# Altium footprint library Package_SO.PcbLib: 393 footprints (part 4 of 25)
Each footprint in its own frame and in the unit in brackets; x right, y up, seen from the top. Pads: shape width x height; smd on the part's side, far side on the other; paste and mask are expansions set on the pad; w line width, h text height; cw(c..) or ccw(c..) is an arc to the next point about the centre after c.
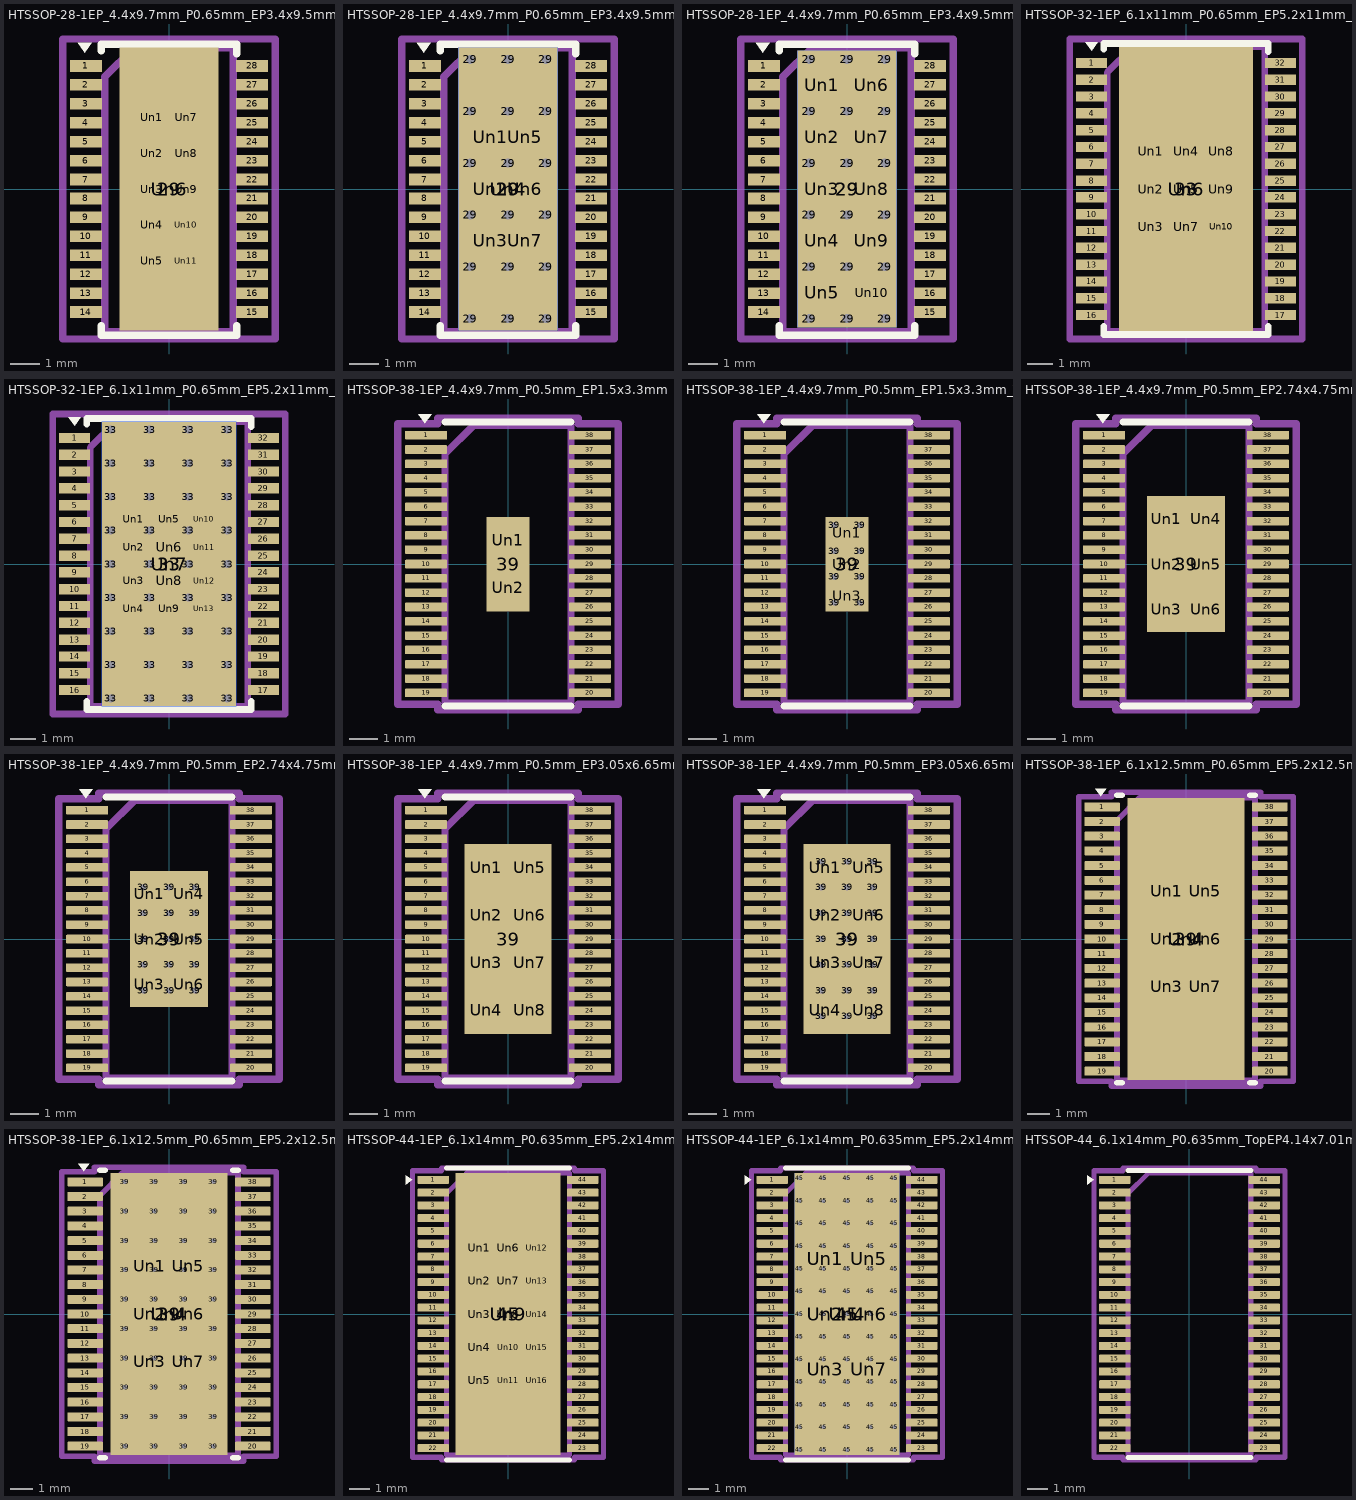
[diagram p3: the footprints below, top view; thin cyan lines are the x and y axes]

## HTSSOP-28-1EP_4.4x9.7mm_P0.65mm_EP3.4x9.5mm_Mask2.4x6.17mm [mm]
pads (40):
  rect 1.1x0.4 smd: 1(-2.85,4.225) 2(-2.85,3.575) 3(-2.85,2.925) 4(-2.85,2.275) 5(-2.85,1.625) 6(-2.85,0.975) 7(-2.85,0.325) 8(-2.85,-0.325) 9(-2.85,-0.975) 10(-2.85,-1.625) 11(-2.85,-2.275) 12(-2.85,-2.925) 13(-2.85,-3.575) 14(-2.85,-4.225) 15(2.85,-4.225) 16(2.85,-3.575) 17(2.85,-2.925) 18(2.85,-2.275) 19(2.85,-1.625) 20(2.85,-0.975) 21(2.85,-0.325) 22(2.85,0.325) 23(2.85,0.975) 24(2.85,1.625) 25(2.85,2.275) 26(2.85,2.925) 27(2.85,3.575) 28(2.85,4.225)
  rect 3.4x9.7 smd: 29(0,0)
  rect 0.9x0.93 on Top Paste: Un1(-0.6,2.468) Un2(-0.6,1.234) Un3(-0.6,0) Un4(-0.6,-1.234) Un5(-0.6,-2.468) Un7(0.6,2.468) Un8(0.6,1.234) Un9(0.6,0) Un10(0.6,-1.234) Un11(0.6,-2.468)
  rect 2.4x6.17 on Top Solder: Un6(0,0)
F.SilkS:
  region: -2.9,4.685 -3.14,5.015 -2.66,5.015
  lines w0.254: -2.325,-4.701 -2.325,-5.026 2.325,-5.026 2.325,-4.701 ; -2.325,4.75 -2.325,4.975 2.325,4.975 2.325,4.65
Top Assembly:
  lines w0.254: -2.2,-4.901 2.2,-4.901 ; -2.2,-4.85 -2.2,3.85 -1.2,4.85 2.2,4.85 2.2,-4.85
  text "'.Designator'" at -3.267,-0.702 h0.8
Top Courtyard:
  lines w0.254: -3.65,-5.15 3.65,-5.15 3.65,5.15 -3.65,5.15 -3.65,-5.15
Top Designator:
  text ".Designator" at -7.618,-0.508 h1.52

## HTSSOP-28-1EP_4.4x9.7mm_P0.65mm_EP3.4x9.5mm_Mask2.4x6.17mm_ThermalVias [mm]
pads (55):
  rect 1.1x0.4 smd: 1(-2.85,4.225) 2(-2.85,3.575) 3(-2.85,2.925) 4(-2.85,2.275) 5(-2.85,1.625) 6(-2.85,0.975) 7(-2.85,0.325) 8(-2.85,-0.325) 9(-2.85,-0.975) 10(-2.85,-1.625) 11(-2.85,-2.275) 12(-2.85,-2.925) 13(-2.85,-3.575) 14(-2.85,-4.225) 15(2.85,-4.225) 16(2.85,-3.575) 17(2.85,-2.925) 18(2.85,-2.275) 19(2.85,-1.625) 20(2.85,-0.975) 21(2.85,-0.325) 22(2.85,0.325) 23(2.85,0.975) 24(2.85,1.625) 25(2.85,2.275) 26(2.85,2.925) 27(2.85,3.575) 28(2.85,4.225)
  round 0.6 hole 0.3: 29(-1.3,-4.45) 29(-1.3,-2.67) 29(-1.3,-0.89) 29(-1.3,0.89) 29(-1.3,2.67) 29(-1.3,4.45) 29(0,-4.45) 29(0,-2.67) 29(0,-0.89) 29(0,0.89) 29(0,2.67) 29(0,4.45) 29(1.3,-4.45) 29(1.3,-2.67) 29(1.3,-0.89) 29(1.3,0.89) 29(1.3,2.67) 29(1.3,4.45)
  rect 3.4x9.7 smd: 29(0,0)
  rect 3.4x9.7 smd far side: 29(0,0)
  rect 0.9x1.4 on Top Paste: Un1(-0.6,1.78) Un2(-0.6,0) Un3(-0.6,-1.78) Un5(0.6,1.78) Un6(0.6,0) Un7(0.6,-1.78)
  rect 2.4x6.17 on Top Solder: Un4(0,0)
F.SilkS:
  region: -2.9,4.685 -3.14,5.015 -2.66,5.015
  lines w0.254: -2.325,-4.701 -2.325,-5.026 2.325,-5.026 2.325,-4.701 ; -2.325,4.75 -2.325,4.975 2.325,4.975 2.325,4.65
Top Assembly:
  lines w0.254: -2.2,-4.901 2.2,-4.901 ; -2.2,-4.85 -2.2,3.85 -1.2,4.85 2.2,4.85 2.2,-4.85
  text "'.Designator'" at -3.267,-0.702 h0.8
Top Courtyard:
  lines w0.254: -3.65,-5.15 3.65,-5.15 3.65,5.15 -3.65,5.15 -3.65,-5.15
Top Designator:
  text ".Designator" at -7.618,-0.508 h1.52

## HTSSOP-28-1EP_4.4x9.7mm_P0.65mm_EP3.4x9.5mm_ThermalVias [mm]
pads (58):
  rect 1.1x0.4 smd: 1(-2.85,4.225) 2(-2.85,3.575) 3(-2.85,2.925) 4(-2.85,2.275) 5(-2.85,1.625) 6(-2.85,0.975) 7(-2.85,0.325) 8(-2.85,-0.325) 9(-2.85,-0.975) 10(-2.85,-1.625) 11(-2.85,-2.275) 12(-2.85,-2.925) 13(-2.85,-3.575) 14(-2.85,-4.225) 15(2.85,-4.225) 16(2.85,-3.575) 17(2.85,-2.925) 18(2.85,-2.275) 19(2.85,-1.625) 20(2.85,-0.975) 21(2.85,-0.325) 22(2.85,0.325) 23(2.85,0.975) 24(2.85,1.625) 25(2.85,2.275) 26(2.85,2.925) 27(2.85,3.575) 28(2.85,4.225)
  round 0.6 hole 0.3: 29(-1.3,-4.45) 29(-1.3,-2.67) 29(-1.3,-0.89) 29(-1.3,0.89) 29(-1.3,2.67) 29(-1.3,4.45) 29(0,-4.45) 29(0,-2.67) 29(0,-0.89) 29(0,0.89) 29(0,2.67) 29(0,4.45) 29(1.3,-4.45) 29(1.3,-2.67) 29(1.3,-0.89) 29(1.3,0.89) 29(1.3,2.67) 29(1.3,4.45)
  rect 3.4x9.5 smd: 29(0,0)
  rect 3.4x9.5 smd far side: 29(0,0)
  rect 1.4x1.4 on Top Paste: Un1(-0.85,3.56) Un2(-0.85,1.78) Un3(-0.85,0) Un4(-0.85,-1.78) Un5(-0.85,-3.56) Un6(0.85,3.56) Un7(0.85,1.78) Un8(0.85,0) Un9(0.85,-1.78) Un10(0.85,-3.56)
F.SilkS:
  region: -2.9,4.685 -3.14,5.015 -2.66,5.015
  lines w0.254: -2.325,-4.701 -2.325,-5.026 2.325,-5.026 2.325,-4.701 ; -2.325,4.75 -2.325,4.975 2.325,4.975 2.325,4.65
Top Assembly:
  lines w0.254: -2.2,-4.901 2.2,-4.901 ; -2.2,-4.85 -2.2,3.85 -1.2,4.85 2.2,4.85 2.2,-4.85
  text "'.Designator'" at -3.267,-0.702 h0.8
Top Courtyard:
  lines w0.254: -3.65,-5.15 3.65,-5.15 3.65,5.15 -3.65,5.15 -3.65,-5.15
Top Designator:
  text ".Designator" at -7.618,-0.508 h1.52

## HTSSOP-32-1EP_6.1x11mm_P0.65mm_EP5.2x11mm_Mask4.11x4.36mm [mm]
pads (43):
  rect 1.2x0.4 smd: 1(-3.65,4.875) 2(-3.65,4.225) 3(-3.65,3.575) 4(-3.65,2.925) 5(-3.65,2.275) 6(-3.65,1.625) 7(-3.65,0.975) 8(-3.65,0.325) 9(-3.65,-0.325) 10(-3.65,-0.975) 11(-3.65,-1.625) 12(-3.65,-2.275) 13(-3.65,-2.925) 14(-3.65,-3.575) 15(-3.65,-4.225) 16(-3.65,-4.875) 17(3.65,-4.875) 18(3.65,-4.225) 19(3.65,-3.575) 20(3.65,-2.925) 21(3.65,-2.275) 22(3.65,-1.625) 23(3.65,-0.975) 24(3.65,-0.325) 25(3.65,0.325) 26(3.65,0.975) 27(3.65,1.625) 28(3.65,2.275) 29(3.65,2.925) 30(3.65,3.575) 31(3.65,4.225) 32(3.65,4.875)
  rect 5.2x11 smd: 33(0,0)
  rect 1.07x1.16 on Top Paste: Un1(-1.37,1.46) Un2(-1.37,0) Un3(-1.37,-1.46) Un4(0,1.46) Un5(0,0) Un7(0,-1.46) Un8(1.37,1.46) Un9(1.37,0) Un10(1.37,-1.46)
  rect 4.11x4.36 on Top Solder: Un6(0,0)
F.SilkS:
  region: -3.65,5.35 -3.89,5.68 -3.41,5.68
  lines w0.254: -3.175,-5.3 -3.175,-5.625 3.175,-5.625 3.175,-5.3 ; -3.175,5.4 -3.175,5.625 3.175,5.625 3.175,5.3
Top Assembly:
  lines w0.254: -3.05,-5.5 3.05,-5.5 3.05,5.5 -2.05,5.5 -3.05,4.5 -3.05,-5.5
  text "'.Designator'" at -3.267,-0.702 h0.8
Top Courtyard:
  lines w0.254: -4.5,-5.8 4.5,-5.8 4.5,5.8 -4.5,5.8 -4.5,-5.8
Top Designator:
  text ".Designator" at -7.618,-0.508 h1.52

## HTSSOP-32-1EP_6.1x11mm_P0.65mm_EP5.2x11mm_Mask4.11x4.36mm_ThermalVias [mm]
pads (83):
  rect 1.2x0.4 smd: 1(-3.65,4.875) 2(-3.65,4.225) 3(-3.65,3.575) 4(-3.65,2.925) 5(-3.65,2.275) 6(-3.65,1.625) 7(-3.65,0.975) 8(-3.65,0.325) 9(-3.65,-0.325) 10(-3.65,-0.975) 11(-3.65,-1.625) 12(-3.65,-2.275) 13(-3.65,-2.925) 14(-3.65,-3.575) 15(-3.65,-4.225) 16(-3.65,-4.875) 17(3.65,-4.875) 18(3.65,-4.225) 19(3.65,-3.575) 20(3.65,-2.925) 21(3.65,-2.275) 22(3.65,-1.625) 23(3.65,-0.975) 24(3.65,-0.325) 25(3.65,0.325) 26(3.65,0.975) 27(3.65,1.625) 28(3.65,2.275) 29(3.65,2.925) 30(3.65,3.575) 31(3.65,4.225) 32(3.65,4.875)
  round 0.6 hole 0.3: 33(-2.25,-5.2) 33(-2.25,-3.9) 33(-2.25,-2.6) 33(-2.25,-1.3) 33(-2.25,0) 33(-2.25,1.3) 33(-2.25,2.6) 33(-2.25,3.9) 33(-2.25,5.2) 33(-0.75,-5.2) 33(-0.75,-3.9) 33(-0.75,-2.6) 33(-0.75,-1.3) 33(-0.75,0) 33(-0.75,1.3) 33(-0.75,2.6) 33(-0.75,3.9) 33(-0.75,5.2) 33(0.75,-5.2) 33(0.75,-3.9) 33(0.75,-2.6) 33(0.75,-1.3) 33(0.75,0) 33(0.75,1.3) 33(0.75,2.6) 33(0.75,3.9) 33(0.75,5.2) 33(2.25,-5.2) 33(2.25,-3.9) 33(2.25,-2.6) 33(2.25,-1.3) 33(2.25,0) 33(2.25,1.3) 33(2.25,2.6) 33(2.25,3.9) 33(2.25,5.2)
  rect 5.2x11 smd: 33(0,0)
  rect 5.2x11 smd far side: 33(0,0)
  rect 0.93x0.55 on Top Paste: Un1(-1.365,1.725) Un4(-1.365,-1.725) Un10(1.365,1.725) Un13(1.365,-1.725)
  rect 0.93x1 on Top Paste: Un2(-1.365,0.65) Un3(-1.365,-0.65) Un11(1.365,0.65) Un12(1.365,-0.65)
  rect 1.2x0.55 on Top Paste: Un5(0,1.725) Un9(0,-1.725)
  rect 1.2x1 on Top Paste: Un6(0,0.65) Un8(0,-0.65)
  rect 4.11x4.36 on Top Solder: Un7(0,0)
F.SilkS:
  region: -3.65,5.35 -3.89,5.68 -3.41,5.68
  lines w0.254: -3.175,-5.3 -3.175,-5.625 3.175,-5.625 3.175,-5.3 ; -3.175,5.4 -3.175,5.625 3.175,5.625 3.175,5.3
Top Assembly:
  lines w0.254: -3.05,-5.5 3.05,-5.5 3.05,5.5 -2.05,5.5 -3.05,4.5 -3.05,-5.5
  text "'.Designator'" at -3.267,-0.702 h0.8
Top Courtyard:
  lines w0.254: -4.5,-5.8 4.5,-5.8 4.5,5.8 -4.5,5.8 -4.5,-5.8
Top Designator:
  text ".Designator" at -7.618,-0.508 h1.52

## HTSSOP-38-1EP_4.4x9.7mm_P0.5mm_EP1.5x3.3mm [mm]
pads (41):
  rrect25% 1.475x0.3 smd: 1(-2.863,4.5) 2(-2.863,4) 3(-2.863,3.5) 4(-2.863,3) 5(-2.863,2.5) 6(-2.863,2) 7(-2.863,1.5) 8(-2.863,1) 9(-2.863,0.5) 10(-2.863,0) 11(-2.863,-0.5) 12(-2.863,-1) 13(-2.863,-1.5) 14(-2.863,-2) 15(-2.863,-2.5) 16(-2.863,-3) 17(-2.863,-3.5) 18(-2.863,-4) 19(-2.863,-4.5) 20(2.863,-4.5) 21(2.863,-4) 22(2.863,-3.5) 23(2.863,-3) 24(2.863,-2.5) 25(2.863,-2) 26(2.863,-1.5) 27(2.863,-1) 28(2.863,-0.5) 29(2.863,0) 30(2.863,0.5) 31(2.863,1) 32(2.863,1.5) 33(2.863,2) 34(2.863,2.5) 35(2.863,3) 36(2.863,3.5) 37(2.863,4) 38(2.863,4.5)
  rect 1.5x3.3 smd: 39(0,0)
  rrect21% 1.21x1.33 on Top Paste: Un1(0,0.825) Un2(0,-0.825)
F.SilkS:
  region: -2.9,4.91 -3.14,5.24 -2.66,5.24
  lines w0.254: -2.2,-4.96 0,-4.96 2.2,-4.96 ; -2.2,4.96 0,4.96 2.2,4.96
Top Assembly:
  lines w0.254: -2.2,-4.85 2.2,-4.85 2.2,4.85 -1.2,4.85 -2.2,3.85 -2.2,-4.85
  text "'.Designator'" at -4.047,-0.84 h1
Top Courtyard:
  lines w0.254: -3.85,-4.9 -2.45,-4.9 -2.45,-5.1 2.45,-5.1 2.45,-4.9 3.85,-4.9 3.85,4.9 2.45,4.9 2.45,5.1 -2.45,5.1 -2.45,4.9 -3.85,4.9 -3.85,-4.9
Top Designator:
  text ".Designator" at -7.727,-0.501 h1.52

## HTSSOP-38-1EP_4.4x9.7mm_P0.5mm_EP1.5x3.3mm_ThermalVias [mm]
pads (51):
  rrect25% 1.475x0.3 smd: 1(-2.863,4.5) 2(-2.863,4) 3(-2.863,3.5) 4(-2.863,3) 5(-2.863,2.5) 6(-2.863,2) 7(-2.863,1.5) 8(-2.863,1) 9(-2.863,0.5) 10(-2.863,0) 11(-2.863,-0.5) 12(-2.863,-1) 13(-2.863,-1.5) 14(-2.863,-2) 15(-2.863,-2.5) 16(-2.863,-3) 17(-2.863,-3.5) 18(-2.863,-4) 19(-2.863,-4.5) 20(2.863,-4.5) 21(2.863,-4) 22(2.863,-3.5) 23(2.863,-3) 24(2.863,-2.5) 25(2.863,-2) 26(2.863,-1.5) 27(2.863,-1) 28(2.863,-0.5) 29(2.863,0) 30(2.863,0.5) 31(2.863,1) 32(2.863,1.5) 33(2.863,2) 34(2.863,2.5) 35(2.863,3) 36(2.863,3.5) 37(2.863,4) 38(2.863,4.5)
  round 0.5 hole 0.2: 39(-0.45,-1.35) 39(-0.45,-0.45) 39(-0.45,0.45) 39(-0.45,1.35) 39(0.45,-1.35) 39(0.45,-0.45) 39(0.45,0.45) 39(0.45,1.35)
  rect 1.5x3.3 smd: 39(0,0)
  rect 1.4x3.2 smd far side: 39(0,0)
  rrect25% 1.21x0.89 on Top Paste: Un1(0,1.1) Un2(0,0) Un3(0,-1.1)
F.SilkS:
  region: -2.9,4.91 -3.14,5.24 -2.66,5.24
  lines w0.254: -2.2,-4.96 0,-4.96 2.2,-4.96 ; -2.2,4.96 0,4.96 2.2,4.96
Top Assembly:
  lines w0.254: -2.2,-4.85 2.2,-4.85 2.2,4.85 -1.2,4.85 -2.2,3.85 -2.2,-4.85
  text "'.Designator'" at -4.047,-0.84 h1
Top Courtyard:
  lines w0.254: -3.85,-4.9 -2.45,-4.9 -2.45,-5.1 2.45,-5.1 2.45,-4.9 3.85,-4.9 3.85,4.9 2.45,4.9 2.45,5.1 -2.45,5.1 -2.45,4.9 -3.85,4.9 -3.85,-4.9
Top Designator:
  text ".Designator" at -7.727,-0.501 h1.52

## HTSSOP-38-1EP_4.4x9.7mm_P0.5mm_EP2.74x4.75mm [mm]
pads (45):
  rrect25% 1.475x0.3 smd: 1(-2.863,4.5) 2(-2.863,4) 3(-2.863,3.5) 4(-2.863,3) 5(-2.863,2.5) 6(-2.863,2) 7(-2.863,1.5) 8(-2.863,1) 9(-2.863,0.5) 10(-2.863,0) 11(-2.863,-0.5) 12(-2.863,-1) 13(-2.863,-1.5) 14(-2.863,-2) 15(-2.863,-2.5) 16(-2.863,-3) 17(-2.863,-3.5) 18(-2.863,-4) 19(-2.863,-4.5) 20(2.863,-4.5) 21(2.863,-4) 22(2.863,-3.5) 23(2.863,-3) 24(2.863,-2.5) 25(2.863,-2) 26(2.863,-1.5) 27(2.863,-1) 28(2.863,-0.5) 29(2.863,0) 30(2.863,0.5) 31(2.863,1) 32(2.863,1.5) 33(2.863,2) 34(2.863,2.5) 35(2.863,3) 36(2.863,3.5) 37(2.863,4) 38(2.863,4.5)
  rect 2.74x4.75 smd: 39(0,0)
  rrect23% 1.1x1.28 on Top Paste: Un1(-0.685,1.58) Un2(-0.685,0) Un3(-0.685,-1.58) Un4(0.685,1.58) Un5(0.685,0) Un6(0.685,-1.58)
F.SilkS:
  region: -2.9,4.91 -3.14,5.24 -2.66,5.24
  lines w0.254: -2.2,-4.96 0,-4.96 2.2,-4.96 ; -2.2,4.96 0,4.96 2.2,4.96
Top Assembly:
  lines w0.254: -2.2,-4.85 2.2,-4.85 2.2,4.85 -1.2,4.85 -2.2,3.85 -2.2,-4.85
  text "'.Designator'" at -4.047,-0.84 h1
Top Courtyard:
  lines w0.254: -3.85,-4.9 -2.45,-4.9 -2.45,-5.1 2.45,-5.1 2.45,-4.9 3.85,-4.9 3.85,4.9 2.45,4.9 2.45,5.1 -2.45,5.1 -2.45,4.9 -3.85,4.9 -3.85,-4.9
Top Designator:
  text ".Designator" at -7.727,-0.501 h1.52

## HTSSOP-38-1EP_4.4x9.7mm_P0.5mm_EP2.74x4.75mm_ThermalVias [mm]
pads (61):
  rrect25% 1.475x0.3 smd: 1(-2.863,4.5) 2(-2.863,4) 3(-2.863,3.5) 4(-2.863,3) 5(-2.863,2.5) 6(-2.863,2) 7(-2.863,1.5) 8(-2.863,1) 9(-2.863,0.5) 10(-2.863,0) 11(-2.863,-0.5) 12(-2.863,-1) 13(-2.863,-1.5) 14(-2.863,-2) 15(-2.863,-2.5) 16(-2.863,-3) 17(-2.863,-3.5) 18(-2.863,-4) 19(-2.863,-4.5) 20(2.863,-4.5) 21(2.863,-4) 22(2.863,-3.5) 23(2.863,-3) 24(2.863,-2.5) 25(2.863,-2) 26(2.863,-1.5) 27(2.863,-1) 28(2.863,-0.5) 29(2.863,0) 30(2.863,0.5) 31(2.863,1) 32(2.863,1.5) 33(2.863,2) 34(2.863,2.5) 35(2.863,3) 36(2.863,3.5) 37(2.863,4) 38(2.863,4.5)
  round 0.5 hole 0.2: 39(-0.9,-1.8) 39(-0.9,-0.9) 39(-0.9,0) 39(-0.9,0.9) 39(-0.9,1.8) 39(0,-1.8) 39(0,-0.9) 39(0,0) 39(0,0.9) 39(0,1.8) 39(0.9,-1.8) 39(0.9,-0.9) 39(0.9,0) 39(0.9,0.9) 39(0.9,1.8)
  rect 2.74x4.75 smd: 39(0,0)
  rect 2.3x4.1 smd far side: 39(0,0)
  rrect23% 1.1x1.28 on Top Paste: Un1(-0.685,1.58) Un2(-0.685,0) Un3(-0.685,-1.58) Un4(0.685,1.58) Un5(0.685,0) Un6(0.685,-1.58)
F.SilkS:
  region: -2.9,4.91 -3.14,5.24 -2.66,5.24
  lines w0.254: -2.2,-4.96 0,-4.96 2.2,-4.96 ; -2.2,4.96 0,4.96 2.2,4.96
Top Assembly:
  lines w0.254: -2.2,-4.85 2.2,-4.85 2.2,4.85 -1.2,4.85 -2.2,3.85 -2.2,-4.85
  text "'.Designator'" at -4.047,-0.84 h1
Top Courtyard:
  lines w0.254: -3.85,-4.9 -2.45,-4.9 -2.45,-5.1 2.45,-5.1 2.45,-4.9 3.85,-4.9 3.85,4.9 2.45,4.9 2.45,5.1 -2.45,5.1 -2.45,4.9 -3.85,4.9 -3.85,-4.9
Top Designator:
  text ".Designator" at -7.727,-0.501 h1.52

## HTSSOP-38-1EP_4.4x9.7mm_P0.5mm_EP3.05x6.65mm [mm]
pads (47):
  rrect25% 1.475x0.3 smd: 1(-2.863,4.5) 2(-2.863,4) 3(-2.863,3.5) 4(-2.863,3) 5(-2.863,2.5) 6(-2.863,2) 7(-2.863,1.5) 8(-2.863,1) 9(-2.863,0.5) 10(-2.863,0) 11(-2.863,-0.5) 12(-2.863,-1) 13(-2.863,-1.5) 14(-2.863,-2) 15(-2.863,-2.5) 16(-2.863,-3) 17(-2.863,-3.5) 18(-2.863,-4) 19(-2.863,-4.5) 20(2.863,-4.5) 21(2.863,-4) 22(2.863,-3.5) 23(2.863,-3) 24(2.863,-2.5) 25(2.863,-2) 26(2.863,-1.5) 27(2.863,-1) 28(2.863,-0.5) 29(2.863,0) 30(2.863,0.5) 31(2.863,1) 32(2.863,1.5) 33(2.863,2) 34(2.863,2.5) 35(2.863,3) 36(2.863,3.5) 37(2.863,4) 38(2.863,4.5)
  rect 3.05x6.65 smd: 39(0,0)
  rrect20% 1.23x1.34 on Top Paste: Un1(-0.76,2.49) Un2(-0.76,0.83) Un3(-0.76,-0.83) Un4(-0.76,-2.49) Un5(0.76,2.49) Un6(0.76,0.83) Un7(0.76,-0.83) Un8(0.76,-2.49)
F.SilkS:
  region: -2.9,4.91 -3.14,5.24 -2.66,5.24
  lines w0.254: -2.2,-4.96 0,-4.96 2.2,-4.96 ; -2.2,4.96 0,4.96 2.2,4.96
Top Assembly:
  lines w0.254: -2.2,-4.85 2.2,-4.85 2.2,4.85 -1.2,4.85 -2.2,3.85 -2.2,-4.85
  text "'.Designator'" at -4.047,-0.84 h1
Top Courtyard:
  lines w0.254: -3.85,-4.9 -2.45,-4.9 -2.45,-5.1 2.45,-5.1 2.45,-4.9 3.85,-4.9 3.85,4.9 2.45,4.9 2.45,5.1 -2.45,5.1 -2.45,4.9 -3.85,4.9 -3.85,-4.9
Top Designator:
  text ".Designator" at -7.727,-0.501 h1.52

## HTSSOP-38-1EP_4.4x9.7mm_P0.5mm_EP3.05x6.65mm_ThermalVias [mm]
pads (69):
  rrect25% 1.475x0.3 smd: 1(-2.863,4.5) 2(-2.863,4) 3(-2.863,3.5) 4(-2.863,3) 5(-2.863,2.5) 6(-2.863,2) 7(-2.863,1.5) 8(-2.863,1) 9(-2.863,0.5) 10(-2.863,0) 11(-2.863,-0.5) 12(-2.863,-1) 13(-2.863,-1.5) 14(-2.863,-2) 15(-2.863,-2.5) 16(-2.863,-3) 17(-2.863,-3.5) 18(-2.863,-4) 19(-2.863,-4.5) 20(2.863,-4.5) 21(2.863,-4) 22(2.863,-3.5) 23(2.863,-3) 24(2.863,-2.5) 25(2.863,-2) 26(2.863,-1.5) 27(2.863,-1) 28(2.863,-0.5) 29(2.863,0) 30(2.863,0.5) 31(2.863,1) 32(2.863,1.5) 33(2.863,2) 34(2.863,2.5) 35(2.863,3) 36(2.863,3.5) 37(2.863,4) 38(2.863,4.5)
  round 0.5 hole 0.2: 39(-0.9,-2.7) 39(-0.9,-1.8) 39(-0.9,-0.9) 39(-0.9,0) 39(-0.9,0.9) 39(-0.9,1.8) 39(-0.9,2.7) 39(0,-2.7) 39(0,-1.8) 39(0,-0.9) 39(0,0) 39(0,0.9) 39(0,1.8) 39(0,2.7) 39(0.9,-2.7) 39(0.9,-1.8) 39(0.9,-0.9) 39(0.9,0) 39(0.9,0.9) 39(0.9,1.8) 39(0.9,2.7)
  rect 3.05x6.65 smd: 39(0,0)
  rect 2.3x5.9 smd far side: 39(0,0)
  rrect20% 1.23x1.34 on Top Paste: Un1(-0.76,2.49) Un2(-0.76,0.83) Un3(-0.76,-0.83) Un4(-0.76,-2.49) Un5(0.76,2.49) Un6(0.76,0.83) Un7(0.76,-0.83) Un8(0.76,-2.49)
F.SilkS:
  region: -2.9,4.91 -3.14,5.24 -2.66,5.24
  lines w0.254: -2.2,-4.96 0,-4.96 2.2,-4.96 ; -2.2,4.96 0,4.96 2.2,4.96
Top Assembly:
  lines w0.254: -2.2,-4.85 2.2,-4.85 2.2,4.85 -1.2,4.85 -2.2,3.85 -2.2,-4.85
  text "'.Designator'" at -4.047,-0.84 h1
Top Courtyard:
  lines w0.254: -3.85,-4.9 -2.45,-4.9 -2.45,-5.1 2.45,-5.1 2.45,-4.9 3.85,-4.9 3.85,4.9 2.45,4.9 2.45,5.1 -2.45,5.1 -2.45,4.9 -3.85,4.9 -3.85,-4.9
Top Designator:
  text ".Designator" at -7.727,-0.501 h1.52

## HTSSOP-38-1EP_6.1x12.5mm_P0.65mm_EP5.2x12.5mm_Mask3.39x6.35mm [mm]
pads (46):
  rrect25% 1.575x0.4 smd: 1(-3.712,5.85) 2(-3.712,5.2) 3(-3.712,4.55) 4(-3.712,3.9) 5(-3.712,3.25) 6(-3.712,2.6) 7(-3.712,1.95) 8(-3.712,1.3) 9(-3.712,0.65) 10(-3.712,0) 11(-3.712,-0.65) 12(-3.712,-1.3) 13(-3.712,-1.95) 14(-3.712,-2.6) 15(-3.712,-3.25) 16(-3.712,-3.9) 17(-3.712,-4.55) 18(-3.712,-5.2) 19(-3.712,-5.85) 20(3.712,-5.85) 21(3.712,-5.2) 22(3.712,-4.55) 23(3.712,-3.9) 24(3.712,-3.25) 25(3.712,-2.6) 26(3.712,-1.95) 27(3.712,-1.3) 28(3.712,-0.65) 29(3.712,0) 30(3.712,0.65) 31(3.712,1.3) 32(3.712,1.95) 33(3.712,2.6) 34(3.712,3.25) 35(3.712,3.9) 36(3.712,4.55) 37(3.712,5.2) 38(3.712,5.85)
  rect 5.2x12.5 smd: 39(0,0)
  rrect18% 1.37x1.71 on Top Paste: Un1(-0.85,2.12) Un2(-0.85,0) Un3(-0.85,-2.12) Un5(0.85,2.12) Un6(0.85,0) Un7(0.85,-2.12)
  rect 3.39x6.35 on Top Solder: Un4(0,0)
F.SilkS:
  region: -3.775,6.31 -4.015,6.64 -3.535,6.64
  lines w0.254: -3.05,-6.36 -2.836,-6.36 ; -3.05,6.36 -2.836,6.36 ; 2.836,-6.36 3.05,-6.36 ; 2.836,6.36 3.05,6.36
Top Assembly:
  lines w0.254: -3.05,-6.25 3.05,-6.25 3.05,6.25 -2.05,6.25 -3.05,5.25 -3.05,-6.25
  text "'.Designator'" at -4.047,-0.84 h1
Top Courtyard:
  lines w0.254: -4.75,-6.3 -3.3,-6.3 -3.3,-6.5 3.3,-6.5 3.3,-6.3 4.75,-6.3 4.75,6.3 3.3,6.3 3.3,6.5 -3.3,6.5 -3.3,6.3 -4.75,6.3 -4.75,-6.3
Top Designator:
  text ".Designator" at -7.618,-0.501 h1.52

## HTSSOP-38-1EP_6.1x12.5mm_P0.65mm_EP5.2x12.5mm_Mask3.39x6.35mm_ThermalVias [mm]
pads (87):
  rrect25% 1.575x0.4 smd: 1(-3.712,5.85) 2(-3.712,5.2) 3(-3.712,4.55) 4(-3.712,3.9) 5(-3.712,3.25) 6(-3.712,2.6) 7(-3.712,1.95) 8(-3.712,1.3) 9(-3.712,0.65) 10(-3.712,0) 11(-3.712,-0.65) 12(-3.712,-1.3) 13(-3.712,-1.95) 14(-3.712,-2.6) 15(-3.712,-3.25) 16(-3.712,-3.9) 17(-3.712,-4.55) 18(-3.712,-5.2) 19(-3.712,-5.85) 20(3.712,-5.85) 21(3.712,-5.2) 22(3.712,-4.55) 23(3.712,-3.9) 24(3.712,-3.25) 25(3.712,-2.6) 26(3.712,-1.95) 27(3.712,-1.3) 28(3.712,-0.65) 29(3.712,0) 30(3.712,0.65) 31(3.712,1.3) 32(3.712,1.95) 33(3.712,2.6) 34(3.712,3.25) 35(3.712,3.9) 36(3.712,4.55) 37(3.712,5.2) 38(3.712,5.85)
  round 0.5 hole 0.2: 39(-1.95,-5.85) 39(-1.95,-4.55) 39(-1.95,-3.25) 39(-1.95,-1.95) 39(-1.95,-0.65) 39(-1.95,0.65) 39(-1.95,1.95) 39(-1.95,3.25) 39(-1.95,4.55) 39(-1.95,5.85) 39(-0.65,-5.85) 39(-0.65,-4.55) 39(-0.65,-3.25) 39(-0.65,-1.95) 39(-0.65,-0.65) 39(-0.65,0.65) 39(-0.65,1.95) 39(-0.65,3.25) 39(-0.65,4.55) 39(-0.65,5.85) 39(0.65,-5.85) 39(0.65,-4.55) 39(0.65,-3.25) 39(0.65,-1.95) 39(0.65,-0.65) 39(0.65,0.65) 39(0.65,1.95) 39(0.65,3.25) 39(0.65,4.55) 39(0.65,5.85) 39(1.95,-5.85) 39(1.95,-4.55) 39(1.95,-3.25) 39(1.95,-1.95) 39(1.95,-0.65) 39(1.95,0.65) 39(1.95,1.95) 39(1.95,3.25) 39(1.95,4.55) 39(1.95,5.85)
  rect 5.2x12.5 smd: 39(0,0)
  rect 4.4x12.2 smd far side: 39(0,0)
  rrect18% 1.37x1.71 on Top Paste: Un1(-0.85,2.12) Un2(-0.85,0) Un3(-0.85,-2.12) Un5(0.85,2.12) Un6(0.85,0) Un7(0.85,-2.12)
  rect 3.39x6.35 on Top Solder: Un4(0,0)
F.SilkS:
  region: -3.775,6.31 -4.015,6.64 -3.535,6.64
  lines w0.254: -3.05,-6.36 -2.836,-6.36 ; -3.05,6.36 -2.836,6.36 ; 2.836,-6.36 3.05,-6.36 ; 2.836,6.36 3.05,6.36
Top Assembly:
  lines w0.254: -3.05,-6.25 3.05,-6.25 3.05,6.25 -2.05,6.25 -3.05,5.25 -3.05,-6.25
  text "'.Designator'" at -4.047,-0.84 h1
Top Courtyard:
  lines w0.254: -4.75,-6.3 -3.3,-6.3 -3.3,-6.5 3.3,-6.5 3.3,-6.3 4.75,-6.3 4.75,6.3 3.3,6.3 3.3,6.5 -3.3,6.5 -3.3,6.3 -4.75,6.3 -4.75,-6.3
Top Designator:
  text ".Designator" at -7.618,-0.501 h1.52

## HTSSOP-44-1EP_6.1x14mm_P0.635mm_EP5.2x14mm_Mask4.31x8.26mm [mm]
pads (61):
  rrect25% 1.575x0.4 smd: 1(-3.712,6.667) 2(-3.712,6.032) 3(-3.712,5.397) 4(-3.712,4.763) 5(-3.712,4.127) 6(-3.712,3.492) 7(-3.712,2.857) 8(-3.712,2.222) 9(-3.712,1.587) 10(-3.712,0.953) 11(-3.712,0.318) 12(-3.712,-0.318) 13(-3.712,-0.953) 14(-3.712,-1.587) 15(-3.712,-2.222) 16(-3.712,-2.857) 17(-3.712,-3.492) 18(-3.712,-4.127) 19(-3.712,-4.763) 20(-3.712,-5.397) 21(-3.712,-6.032) 22(-3.712,-6.667) 23(3.712,-6.667) 24(3.712,-6.032) 25(3.712,-5.397) 26(3.712,-4.763) 27(3.712,-4.127) 28(3.712,-3.492) 29(3.712,-2.857) 30(3.712,-2.222) 31(3.712,-1.587) 32(3.712,-0.953) 33(3.712,-0.318) 34(3.712,0.318) 35(3.712,0.953) 36(3.712,1.587) 37(3.712,2.222) 38(3.712,2.857) 39(3.712,3.492) 40(3.712,4.127) 41(3.712,4.763) 42(3.712,5.397) 43(3.712,6.032) 44(3.712,6.667)
  rect 5.2x14 smd: 45(0,0)
  rrect22% 1.16x1.33 on Top Paste: Un1(-1.44,3.3) Un2(-1.44,1.65) Un3(-1.44,0) Un4(-1.44,-1.65) Un5(-1.44,-3.3) Un6(0,3.3) Un7(0,1.65) Un8(0,0) Un10(0,-1.65) Un11(0,-3.3) Un12(1.44,3.3) Un13(1.44,1.65) Un14(1.44,0) Un15(1.44,-1.65) Un16(1.44,-3.3)
  rect 4.31x8.26 on Top Solder: Un9(0,0)
F.SilkS:
  region: -4.76,6.667 -5.09,6.428 -5.09,6.907
  lines w0.254: -3.05,-7.26 0,-7.26 3.05,-7.26 ; -3.05,7.26 0,7.26 3.05,7.26
Top Assembly:
  lines w0.254: -3.05,-7 3.05,-7 3.05,7 -2.05,7 -3.05,6 -3.05,-7
  text "'.Designator'" at -4.047,-0.84 h1
Top Courtyard:
  lines w0.254: -4.75,-7.12 -3.3,-7.12 -3.3,-7.25 3.3,-7.25 3.3,-7.12 4.75,-7.12 4.75,7.12 3.3,7.12 3.3,7.25 -3.3,7.25 -3.3,7.12 -4.75,7.12 -4.75,-7.12
Top Designator:
  text ".Designator" at -7.724,-0.508 h1.52

## HTSSOP-44-1EP_6.1x14mm_P0.635mm_EP5.2x14mm_Mask4.31x8.26mm_ThermalVias [mm]
pads (118):
  rrect25% 1.575x0.4 smd: 1(-3.712,6.667) 2(-3.712,6.032) 3(-3.712,5.397) 4(-3.712,4.763) 5(-3.712,4.127) 6(-3.712,3.492) 7(-3.712,2.857) 8(-3.712,2.222) 9(-3.712,1.587) 10(-3.712,0.953) 11(-3.712,0.318) 12(-3.712,-0.318) 13(-3.712,-0.953) 14(-3.712,-1.587) 15(-3.712,-2.222) 16(-3.712,-2.857) 17(-3.712,-3.492) 18(-3.712,-4.127) 19(-3.712,-4.763) 20(-3.712,-5.397) 21(-3.712,-6.032) 22(-3.712,-6.667) 23(3.712,-6.667) 24(3.712,-6.032) 25(3.712,-5.397) 26(3.712,-4.763) 27(3.712,-4.127) 28(3.712,-3.492) 29(3.712,-2.857) 30(3.712,-2.222) 31(3.712,-1.587) 32(3.712,-0.953) 33(3.712,-0.318) 34(3.712,0.318) 35(3.712,0.953) 36(3.712,1.587) 37(3.712,2.222) 38(3.712,2.857) 39(3.712,3.492) 40(3.712,4.127) 41(3.712,4.763) 42(3.712,5.397) 43(3.712,6.032) 44(3.712,6.667)
  round 0.5 hole 0.2: 45(-2.35,-6.75) 45(-2.35,-5.625) 45(-2.35,-4.5) 45(-2.35,-3.375) 45(-2.35,-2.25) 45(-2.35,-1.125) 45(-2.35,0) 45(-2.35,1.125) 45(-2.35,2.25) 45(-2.35,3.375) 45(-2.35,4.5) 45(-2.35,5.625) 45(-2.35,6.75) 45(-1.175,-6.75) 45(-1.175,-5.625) 45(-1.175,-4.5) 45(-1.175,-3.375) 45(-1.175,-2.25) 45(-1.175,-1.125) 45(-1.175,0) 45(-1.175,1.125) 45(-1.175,2.25) 45(-1.175,3.375) 45(-1.175,4.5) 45(-1.175,5.625) 45(-1.175,6.75) 45(0,-6.75) 45(0,-5.625) 45(0,-4.5) 45(0,-3.375) 45(0,-2.25) 45(0,-1.125) 45(0,0) 45(0,1.125) 45(0,2.25) 45(0,3.375) 45(0,4.5) 45(0,5.625) 45(0,6.75) 45(1.175,-6.75) 45(1.175,-5.625) 45(1.175,-4.5) 45(1.175,-3.375) 45(1.175,-2.25) 45(1.175,-1.125) 45(1.175,0) 45(1.175,1.125) 45(1.175,2.25) 45(1.175,3.375) 45(1.175,4.5) 45(1.175,5.625) 45(1.175,6.75) 45(2.35,-6.75) 45(2.35,-5.625) 45(2.35,-4.5) 45(2.35,-3.375) 45(2.35,-2.25) 45(2.35,-1.125) 45(2.35,0) 45(2.35,1.125) 45(2.35,2.25) 45(2.35,3.375) 45(2.35,4.5) 45(2.35,5.625) 45(2.35,6.75)
  rect 5.2x14 smd: 45(0,0)
  rect 5.2x14 smd far side: 45(0,0)
  rrect14% 1.74x2.22 on Top Paste: Un1(-1.075,2.75) Un2(-1.075,0) Un3(-1.075,-2.75) Un5(1.075,2.75) Un6(1.075,0) Un7(1.075,-2.75)
  rect 4.31x8.26 on Top Solder: Un4(0,0)
F.SilkS:
  region: -4.76,6.667 -5.09,6.428 -5.09,6.907
  lines w0.254: -3.05,-7.26 0,-7.26 3.05,-7.26 ; -3.05,7.26 0,7.26 3.05,7.26
Top Assembly:
  lines w0.254: -3.05,-7 3.05,-7 3.05,7 -2.05,7 -3.05,6 -3.05,-7
  text "'.Designator'" at -4.047,-0.84 h1
Top Courtyard:
  lines w0.254: -4.75,-7.12 -3.3,-7.12 -3.3,-7.25 3.3,-7.25 3.3,-7.12 4.75,-7.12 4.75,7.12 3.3,7.12 3.3,7.25 -3.3,7.25 -3.3,7.12 -4.75,7.12 -4.75,-7.12
Top Designator:
  text ".Designator" at -7.724,-0.508 h1.52

## HTSSOP-44_6.1x14mm_P0.635mm_TopEP4.14x7.01mm [mm]
pads (44):
  rrect25% 1.575x0.4 smd: 1(-3.712,6.667) 2(-3.712,6.032) 3(-3.712,5.397) 4(-3.712,4.763) 5(-3.712,4.127) 6(-3.712,3.492) 7(-3.712,2.857) 8(-3.712,2.222) 9(-3.712,1.587) 10(-3.712,0.953) 11(-3.712,0.318) 12(-3.712,-0.318) 13(-3.712,-0.953) 14(-3.712,-1.587) 15(-3.712,-2.222) 16(-3.712,-2.857) 17(-3.712,-3.492) 18(-3.712,-4.127) 19(-3.712,-4.763) 20(-3.712,-5.397) 21(-3.712,-6.032) 22(-3.712,-6.667) 23(3.712,-6.667) 24(3.712,-6.032) 25(3.712,-5.397) 26(3.712,-4.763) 27(3.712,-4.127) 28(3.712,-3.492) 29(3.712,-2.857) 30(3.712,-2.222) 31(3.712,-1.587) 32(3.712,-0.953) 33(3.712,-0.318) 34(3.712,0.318) 35(3.712,0.953) 36(3.712,1.587) 37(3.712,2.222) 38(3.712,2.857) 39(3.712,3.492) 40(3.712,4.127) 41(3.712,4.763) 42(3.712,5.397) 43(3.712,6.032) 44(3.712,6.667)
F.SilkS:
  region: -4.76,6.667 -5.09,6.428 -5.09,6.907
  lines w0.254: -3.05,-7.127 0,-7.127 3.05,-7.127 ; -3.05,7.127 0,7.127 3.05,7.127
Top Assembly:
  lines w0.254: -3.05,-7 3.05,-7 3.05,7 -2.05,7 -3.05,6 -3.05,-7
  text "'.Designator'" at -4.047,-0.84 h1
Top Courtyard:
  lines w0.254: -4.75,-7.12 -3.3,-7.12 -3.3,-7.25 3.3,-7.25 3.3,-7.12 4.75,-7.12 4.75,7.12 3.3,7.12 3.3,7.25 -3.3,7.25 -3.3,7.12 -4.75,7.12 -4.75,-7.12
Top Designator:
  text ".Designator" at -7.724,-0.508 h1.52